# EAGLE library part CAT3200HU2 (library Egna komponenter)
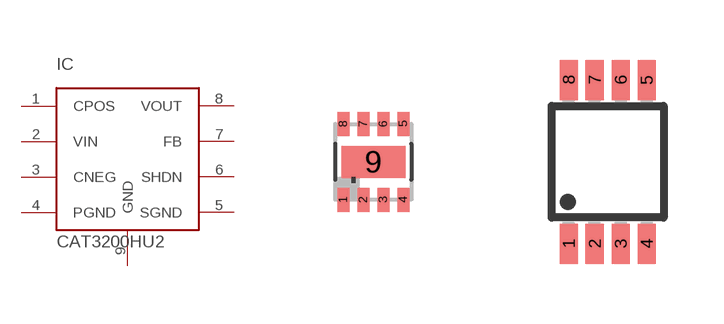
[diagram p12: symbol with the pads of UDFN8_WITH_PAD; footprints UDFN8_WITH_PAD, MSOP8]

Designator prefix IC

## CAT3200HU2  [UDFN8_WITH_PAD]
1  CPOS
2  VIN
3  CNEG
4  PGND
5  SGND
6  SHDN
7  FB
8  VOUT
9  GND

## CAT3200HU2MSOP8  [MSOP8]
1  CPOS
2  VIN
3  CNEG
4  PGND
5  SGND
6  SHDN
7  FB
8  VOUT

## Footprint UDFN8_WITH_PAD (pad centres in mm)
uDFN 8 Source: http://datasheets.maxim-ic.com/en/ds/MAX4906-MAX4907F.pdf
smd 0.3 x 0.6: 1 -0.75,-0.95; 2 -0.25,-0.95; 3 0.25,-0.95; 4 0.75,-0.95; 5 0.75,0.95; 6 0.25,0.95; 7 -0.25,0.95; 8 -0.75,0.95
smd 1.6 x 0.8: 9 0,0

## Footprint MSOP8 (pad centres in mm)
Micro Small Outline Package Grid .65mm
smd 0.45 x 1: 1 -0.975,-2.05; 2 -0.325,-2.05; 3 0.325,-2.05; 4 0.975,-2.05; 5 0.975,2.05; 6 0.325,2.05; 7 -0.325,2.05; 8 -0.975,2.05